# Altium footprint library CONN-SPE_MOLEX_0015913033.PcbLib: 1 footprints
Each footprint in its own frame and in the unit in brackets; x right, y up, seen from the top. Pads: shape width x height; smd on the part's side, far side on the other; paste and mask are expansions set on the pad; w line width, h text height; cw(c..) or ccw(c..) is an arc to the next point about the centre after c.
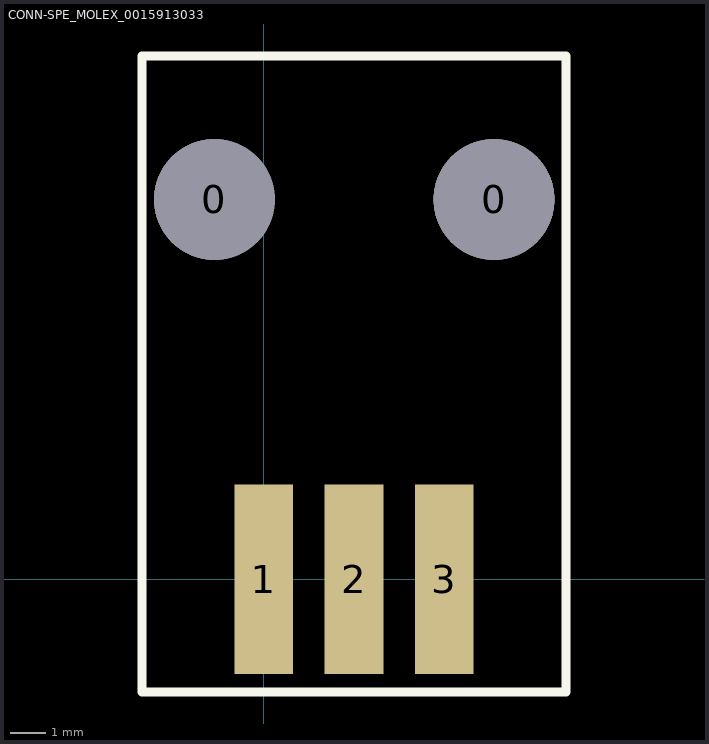
[diagram p0: the footprint, top view; thin cyan lines are the x and y axes]

## CONN-SPE_MOLEX_0015913033 [mm]
pads (5):
  round 3.4 hole 3.4: 0(-1.39,10.69) 0(6.48,10.69)
  rect 1.65x5.33 smd: 1(0,0) 2(2.54,0) 3(5.08,0)
Top Overlay:
  lines w0.254: -3.429,-3.175 -3.429,14.732 8.509,14.732 8.509,-3.175 -3.429,-3.175
3D body: height 6.96, standoff -2.28, extent -3.175,-1.905 8.255,14.859